# Altium schematic symbol library En.SCHLIB: 251 symbols (part 5 of 5)
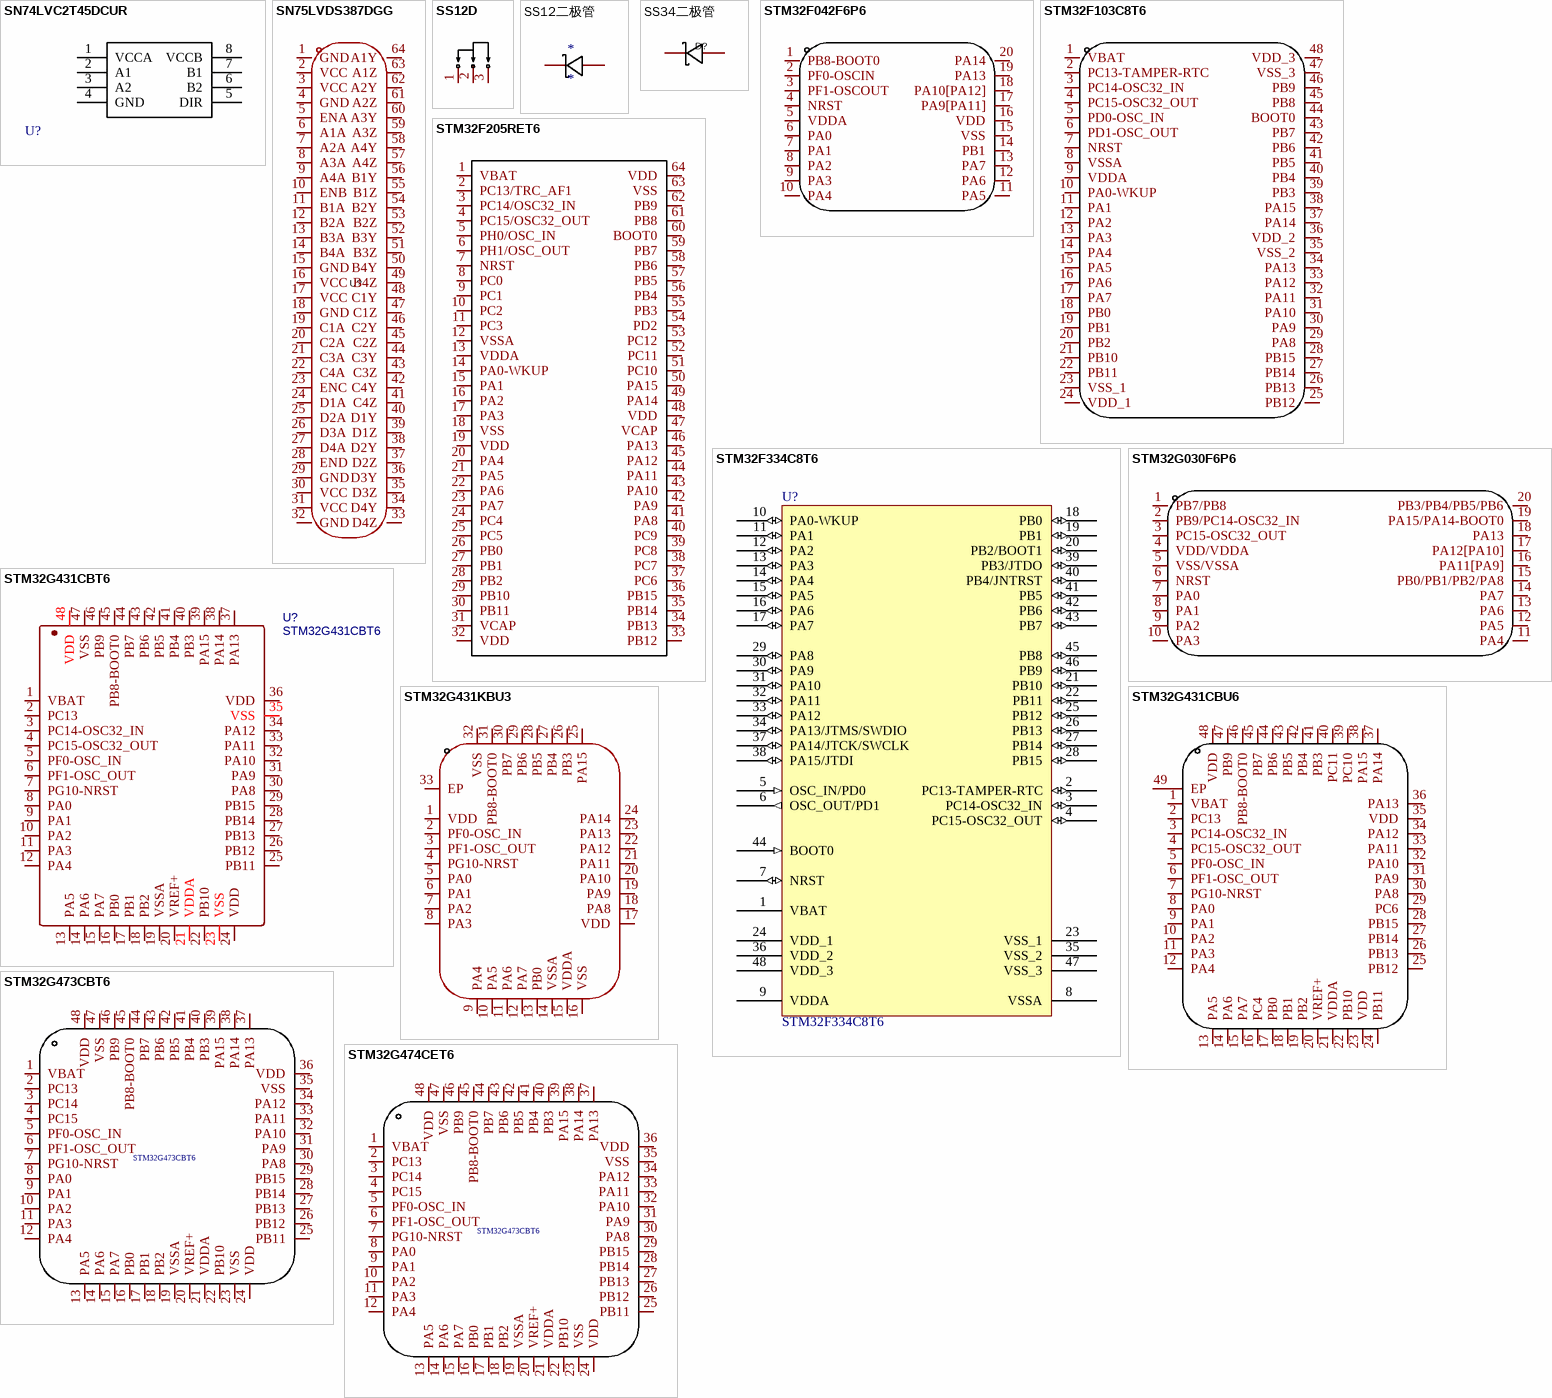
[diagram p23: symbols SN74LVC2T45DCUR to STM32G474CET6]

## STM32G030F6P6
designator U?  (value not drawn)
Manufacturer: ST(意法半导体); Add into BOM: yes; CPU Core: CM0; Program Storage Size: 32KB; RAM Size: 8KB; GPIO Ports Number: 18; Operating Voltage Range: 2V~3.6V; CPU Maximum Speed: 64MHz; Program Memory Type: FLASH; ADC (Bit): 12bit; Peripheral/Function: DMA；看门狗；看门狗; Internal Oscillator: 有; Symbol: STM32G030F6P6; Device: STM32G030F6P6; Supplier: LCSC; Supplier Part: C724040; Manufacturer Part: STM32G030F6P6; JLCPCB Part Class: Extended Part; LCSC Part Name: STM32G030F6P6; Supplier Footprint: TSSOP-20; Datasheet: https://atta.szlcsc.com/upload/public/pdf/source/20200511/C529329_A1CB615556C746C4EA827FCAD1461480.pdf; Convert to PCB: yes; Operating Temperature Range: -40℃~+85℃; DAC (Bit): -; PWM (Bit): -; Universal Serial Bus: -; Internal Comparator: -; communication protocol: -; Watchdog: -; Real-Time Clock: -; Infrared Data Association: -; Low-Voltage Detect: -; CCP Capture/Compare: -; Secure Digital Input and Output: -; Direct Memory Access: -
footprint TSSOP-20_L6.5-W4.4-P0.65-LS6.4-BL
pins: 1 PB7/PB8, 2 PB9/PC14-OSC32_IN, 3 PC15-OSC32_OUT, 4 VDD/VDDA, 5 VSS/VSSA, 6 NRST, 7 PA0, 8 PA1, 9 PA2, 10 PA3, 11 PA4, 12 PA5, 13 PA6, 14 PA7, 15 PB0/PB1/PB2/PA8, 16 PA11[PA9], 17 PA12[PA10], 18 PA13, 19 PA15/PA14-BOOT0, 20 PB3/PB4/PB5/PB6

## STM32G431CBT6
designator U?
BOM_Manufacturer: STMicroelectronics; Contributor: LCSC; BOM_Supplier: LCSC; BOM_Supplier Part: C529355; BOM_Manufacturer Part: STM32G431CBT6; BOM_JLCPCB Part Class: Extended Part; spicePre: U; spiceSymbolName: STM32G431CBT6
footprint LQFP-48
pins: 1 VBAT, 2 PC13, 3 PC14-OSC32_IN, 4 PC15-OSC32_OUT, 5 PF0-OSC_IN, 6 PF1-OSC_OUT, 7 PG10-NRST, 8 PA0, 9 PA1, 10 PA2, 11 PA3, 12 PA4, 13 PA5, 14 PA6, 15 PA7, 16 PB0, 17 PB1, 18 PB2, 19 VSSA, 20 VREF+, 21 VDDA, 22 PB10, 23 VSS, 24 VDD, 25 PB11, 26 PB12, 27 PB13, 28 PB14, 29 PB15, 30 PA8, 31 PA9, 32 PA10, 33 PA11, 34 PA12, 35 VSS, 36 VDD, 37 PA13, 38 PA14, 39 PA15, 40 PB3, 41 PB4, 42 PB5, 43 PB6, 44 PB7, 45 PB8-BOOT0, 46 PB9, 47 VSS, 48 VDD

## STM32G431CBU6
designator U?  (value not drawn)
Manufacturer: ST(意法半导体); Add into BOM: yes; CPU Core: ARM-M系列; Program Storage Size: 128KB; RAM Size: 32KB; GPIO Ports Number: 42; Operating Voltage Range: 1.71V~3.6V; CPU Maximum Speed: 170MHz; Program Memory Type: FLASH; ADC (Bit): 12bit; Peripheral/Function: DMA；PWM; Watchdog: 有; Name: STM32G431CBU6; Symbol: STM32G431CBU6; Device: STM32G431CBU6; LCSC Part Name: STM32G431CBU6; Supplier Part: C529356; Manufacturer Part: STM32G431CBU6; Supplier Footprint: UFQFPN-48(7x7); JLCPCB Part Class: Extended Part; Datasheet: https://atta.szlcsc.com/upload/public/pdf/source/20200511/C529354_7C66CF00837B904D0C15DCE45B69418C.pdf; Supplier: LCSC; Convert to PCB: yes; Operating Temperature Range: -40℃~+85℃; DAC (Bit): 12bit; PWM (Bit): -; Universal Serial Bus: -; Internal Comparator: -; communication protocol: -; Real-Time Clock: -; Infrared Data Association: 有; Low-Voltage Detect: 有; CCP Capture/Compare: -; Secure Digital Input and Output: -; Direct Memory Access: 有; Internal Oscillator: 有
footprint UFQFPN-48_L7.0-W7.0-P0.50-BL-EP
3D model UFQFPN-48_L7.0-W7.0-H0.6-P0.50
pins: 1 VBAT, 2 PC13, 3 PC14-OSC32_IN, 4 PC15-OSC32_OUT, 5 PF0-OSC_IN, 6 PF1-OSC_OUT, 7 PG10-NRST, 8 PA0, 9 PA1, 10 PA2, 11 PA3, 12 PA4, 13 PA5, 14 PA6, 15 PA7, 16 PC4, 17 PB0, 18 PB1, 19 PB2, 20 VREF+, 21 VDDA, 22 PB10, 23 VDD, 24 PB11, 25 PB12, 26 PB13, 27 PB14, 28 PB15, 29 PC6, 30 PA8, 31 PA9, 32 PA10, 33 PA11, 34 PA12, 35 VDD, 36 PA13, 37 PA14, 38 PA15, 39 PC10, 40 PC11, 41 PB3, 42 PB4, 43 PB5, 44 PB6, 45 PB7, 46 PB8-BOOT0, 47 PB9, 48 VDD, 49 EP

## STM32G431KBU3
designator U?  (value not drawn)
Manufacturer: ST(意法半导体); Add into BOM: yes; CPU Core: ARM-M4; CPU Maximum Speed: 170MHz; Program Storage Size: 128KB; Program Memory Type: FLASH; Number of I/O: 26; ADC (Bit): 12bit; Low Voltage Detection Threshold: 1.71V~3.6V; Symbol: STM32G431KBU3; Device: STM32G431KBU3; LCSC Part Name: 带DSP和FPU的170MHz主流ARM Cortex-M4 MCU，具有128 KB Flash存储器、数学加速器和中等模拟电平集成; Supplier Part: C1341901; Manufacturer Part: STM32G431KBU3; Supplier Footprint: UFQFPN-32(5x5); JLCPCB Part Class: Extended Part; Datasheet: https://atta.szlcsc.com/upload/public/pdf/source/20210607/F3CD0646E5D00AAFDE875C196C2D7333.pdf; Supplier: LCSC; Convert to PCB: yes; DAC (Bit): 12bit; Application Area: -
footprint UFQFPN-32_L5.0-W5.0-P0.50-BL-EP3.5
3D model UFQFPN-32_L5.0-W5.0-H0.6-P0.50
pins: 1 VDD, 2 PF0-OSC_IN, 3 PF1-OSC_OUT, 4 PG10-NRST, 5 PA0, 6 PA1, 7 PA2, 8 PA3, 9 PA4, 10 PA5, 11 PA6, 12 PA7, 13 PB0, 14 VSSA, 15 VDDA, 16 VSS, 17 VDD, 18 PA8, 19 PA9, 20 PA10, 21 PA11, 22 PA12, 23 PA13, 24 PA14, 25 PA15, 26 PB3, 27 PB4, 28 PB5, 29 PB6, 30 PB7, 31 PB8-BOOT0, 32 VSS, 33 EP

## STM32G473CBT6
designator U?  (value not drawn)
Manufacturer: ST(意法半导体); Add into BOM: yes; Symbol: STM32G473CBT6; Device: STM32G473CBT6; Supplier: LCSC; Supplier Part: C730111; Manufacturer Part: STM32G473CBT6; JLCPCB Part Class: Extended Part; LCSC Part Name: STM32G473CBT6; Supplier Footprint: LQFP-48(7x7); Datasheet: https://atta.szlcsc.com/upload/public/pdf/source/20200902/C730111_19331807E2800E1C1C13BFFAAC550E20.pdf; Convert to PCB: yes
footprint LQFP-48
pins: 1 VBAT, 2 PC13, 3 PC14, 4 PC15, 5 PF0-OSC_IN, 6 PF1-OSC_OUT, 7 PG10-NRST, 8 PA0, 9 PA1, 10 PA2, 11 PA3, 12 PA4, 13 PA5, 14 PA6, 15 PA7, 16 PB0, 17 PB1, 18 PB2, 19 VSSA, 20 VREF+, 21 VDDA, 22 PB10, 23 VSS, 24 VDD, 25 PB11, 26 PB12, 27 PB13, 28 PB14, 29 PB15, 30 PA8, 31 PA9, 32 PA10, 33 PA11, 34 PA12, 35 VSS, 36 VDD, 37 PA13, 38 PA14, 39 PA15, 40 PB3, 41 PB4, 42 PB5, 43 PB6, 44 PB7, 45 PB8-BOOT0, 46 PB9, 47 VSS, 48 VDD

## STM32G474CET6
designator U?  (value not drawn)
Manufacturer: ST(意法半导体); Symbol: STM32G473CBT6; Add into BOM: yes; Device: STM32G473CBT6; Supplier: LCSC; Supplier Part: C730111; Manufacturer Part: STM32G473CBT6; JLCPCB Part Class: Extended Part; LCSC Part Name: STM32G473CBT6; Supplier Footprint: LQFP-48(7x7); Datasheet: https://atta.szlcsc.com/upload/public/pdf/source/20200902/C730111_19331807E2800E1C1C13BFFAAC550E20.pdf; Convert to PCB: yes
footprint LQFP-48
pins: 1 VBAT, 2 PC13, 3 PC14, 4 PC15, 5 PF0-OSC_IN, 6 PF1-OSC_OUT, 7 PG10-NRST, 8 PA0, 9 PA1, 10 PA2, 11 PA3, 12 PA4, 13 PA5, 14 PA6, 15 PA7, 16 PB0, 17 PB1, 18 PB2, 19 VSSA, 20 VREF+, 21 VDDA, 22 PB10, 23 VSS, 24 VDD, 25 PB11, 26 PB12, 27 PB13, 28 PB14, 29 PB15, 30 PA8, 31 PA9, 32 PA10, 33 PA11, 34 PA12, 35 VSS, 36 VDD, 37 PA13, 38 PA14, 39 PA15, 40 PB3, 41 PB4, 42 PB5, 43 PB6, 44 PB7, 45 PB8-BOOT0, 46 PB9, 47 VSS, 48 VDD

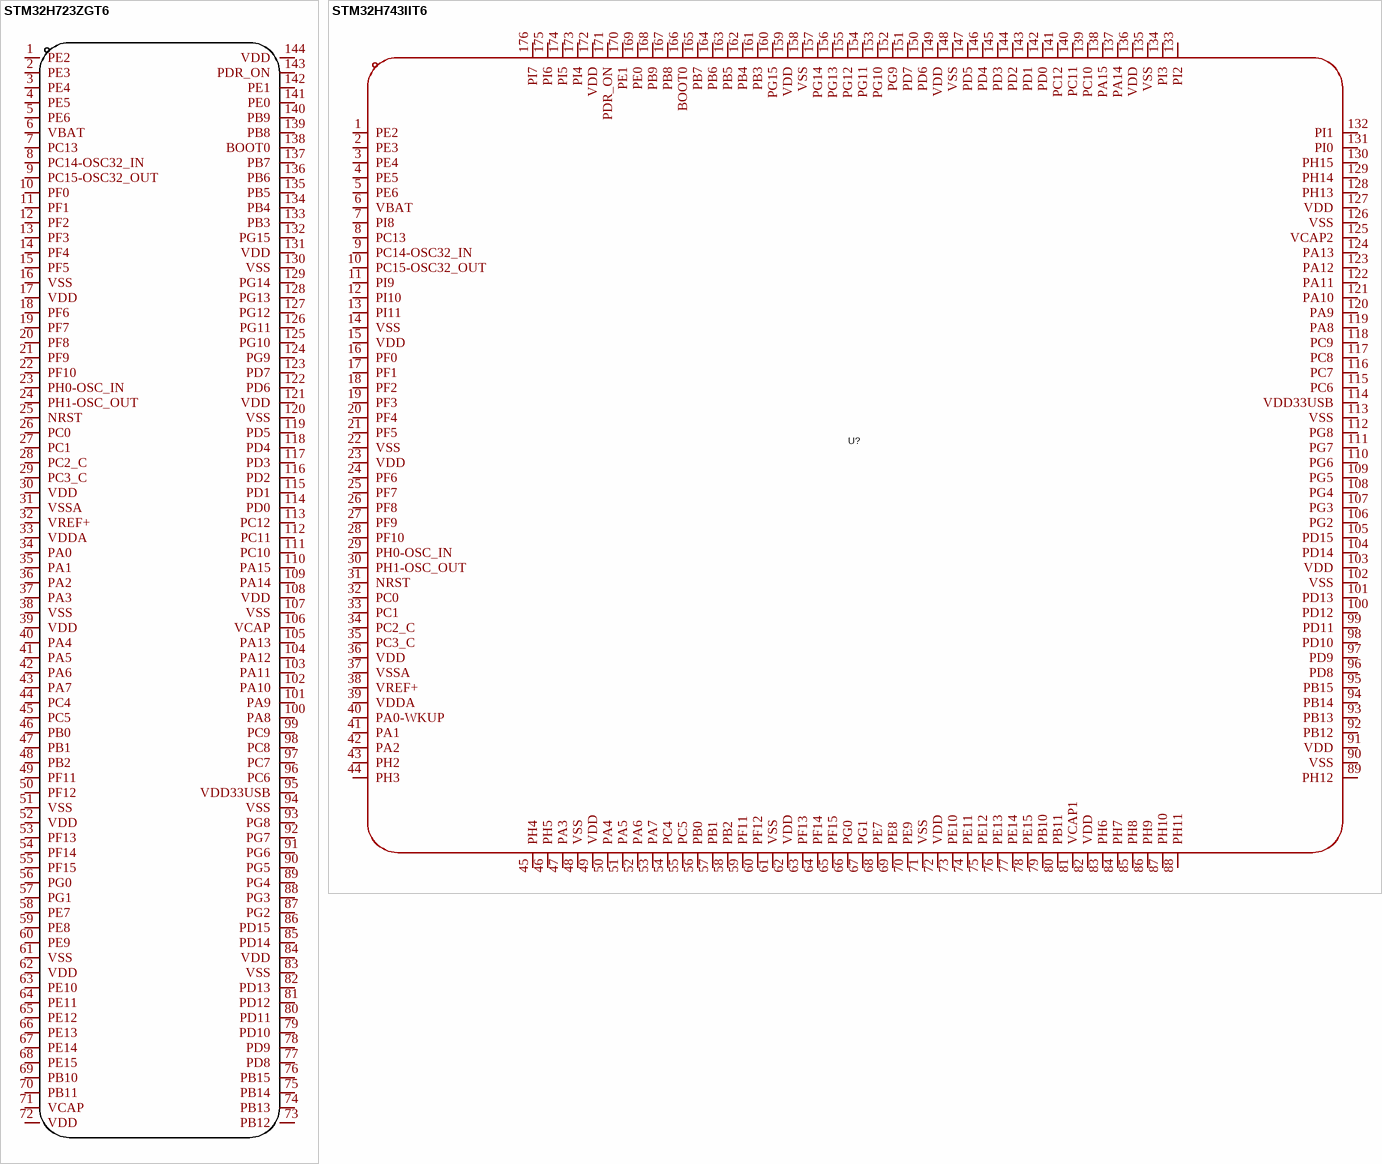
[diagram p17: symbols STM32H723ZGT6 to STM32H743IIT6]

## STM32H723ZGT6
designator U?  (value not drawn)
Manufacturer: ST(意法半导体); Add into BOM: yes; CPU Core: ARM-M系列; Program Storage Size: 1MB; RAM Size: 564KB; GPIO Ports Number: 112; Operating Voltage Range: 1.71V~3.6V; CPU Maximum Speed: 550MHz; Program Memory Type: FLASH; ADC (Bit): 12bit；16bit; DAC (Bit): 12bit; Universal Serial Bus: 有; Peripheral/Function: DMA；LCD/LED驱动；PWM; Symbol: STM32H723ZGT6; Device: STM32H723ZGT6; LCSC Part Name: STM32H723ZGT6; Supplier Part: C730146; Manufacturer Part: STM32H723ZGT6; Supplier Footprint: LQFP-144(20x20); JLCPCB Part Class: Extended Part; Datasheet: https://atta.szlcsc.com/upload/public/pdf/source/20200902/C730141_32325B298F902737689CA9A88D6BD2F2.pdf; Supplier: LCSC; Convert to PCB: yes; Operating Temperature Range: -40℃~+85℃; PWM (Bit): -; 8Bit Timer: -; 16Bit Timer: -; 32Bit Timer: -; CAN: -; UART/USART: -; I2C: -; I2S: -; SPI: -; Internal Comparator: -; communication protocol: -; Watchdog: 有; Real-Time Clock: -; Infrared Data Association: 有; Low-Voltage Detect: 有; CCP Capture/Compare: -; LCD Module: 有; LED Module: -; Secure Digital Input and Output: 有; Direct Memory Access: 有; Internal Oscillator: 有; Application Area: -
footprint LQFP-144_L20.0-W20.0-P0.50-LS22.0-BL
pins: 1 PE2, 2 PE3, 3 PE4, 4 PE5, 5 PE6, 6 VBAT, 7 PC13, 8 PC14-OSC32_IN, 9 PC15-OSC32_OUT, 10 PF0, 11 PF1, 12 PF2, 13 PF3, 14 PF4, 15 PF5, 16 VSS, 17 VDD, 18 PF6, 19 PF7, 20 PF8, 21 PF9, 22 PF10, 23 PH0-OSC_IN, 24 PH1-OSC_OUT, 25 NRST, 26 PC0, 27 PC1, 28 PC2_C, 29 PC3_C, 30 VDD, 31 VSSA, 32 VREF+, 33 VDDA, 34 PA0, 35 PA1, 36 PA2, 37 PA3, 38 VSS, 39 VDD, 40 PA4, 41 PA5, 42 PA6, 43 PA7, 44 PC4, 45 PC5, 46 PB0, 47 PB1, 48 PB2, 49 PF11, 50 PF12, 51 VSS, 52 VDD, 53 PF13, 54 PF14, 55 PF15, 56 PG0, 57 PG1, 58 PE7, 59 PE8, 60 PE9, 61 VSS, 62 VDD, 63 PE10, 64 PE11, 65 PE12, 66 PE13, 67 PE14, 68 PE15, 69 PB10, 70 PB11, 71 VCAP, 72 VDD, 73 PB12, 74 PB13, 75 PB14, 76 PB15, 77 PD8, 78 PD9, 79 PD10, 80 PD11, 81 PD12, 82 PD13, 83 VSS, 84 VDD, 85 PD14, 86 PD15, 87 PG2, 88 PG3, 89 PG4, 90 PG5, 91 PG6, 92 PG7, 93 PG8, 94 VSS, 95 VDD33USB, 96 PC6, 97 PC7, 98 PC8, 99 PC9, 100 PA8, 101 PA9, 102 PA10, 103 PA11, 104 PA12, 105 PA13, 106 VCAP, 107 VSS, 108 VDD, 109 PA14, 110 PA15, 111 PC10, 112 PC11, 113 PC12, 114 PD0, 115 PD1, 116 PD2, 117 PD3, 118 PD4, 119 PD5, 120 VSS, 121 VDD, 122 PD6, 123 PD7, 124 PG9, 125 PG10, 126 PG11, 127 PG12, 128 PG13, 129 PG14, 130 VSS, 131 VDD, 132 PG15, 133 PB3, 134 PB4, 135 PB5, 136 PB6, 137 PB7, 138 BOOT0, 139 PB8, 140 PB9, 141 PE0, 142 PE1, 143 PDR_ON, 144 VDD

## STM32H743IIT6
designator U?  (value not drawn)
Manufacturer: ST(意法半导体); Add into BOM: yes; CPU Maximum Speed: 480MHz; Program Storage Size: 2MB; Program Memory Type: FLASH; GPIO Ports Number: 140; ADC (Bit): 16bit; DAC (Bit): 12bit; Low Voltage Detection Threshold: 1.62V~3.6V; Symbol: STM32H743IIT6; Device: STM32H743IIT6; LCSC Part Name: 带DSP和DP-FPU的高性能ARM Cortex-M7 MCU，具有2 MB Flash、1 MB RAM、480 MHz CPU、ART加速器、一级缓存、外部存储器接口和大量外设; Supplier Part: C89597; Manufacturer Part: STM32H743IIT6; Supplier Footprint: LQFP-176(24x24); JLCPCB Part Class: Extended Part; Datasheet: https://atta.szlcsc.com/upload/public/pdf/source/20240801/032C575B9AAB8514934CF1EBEB30E849.pdf; Supplier: LCSC; Convert to PCB: yes; CPU Core: -
footprint LQFP-176_L24.0-W24.0-P0.50-LS26.0-BL
pins: 1 PE2, 2 PE3, 3 PE4, 4 PE5, 5 PE6, 6 VBAT, 7 PI8, 8 PC13, 9 PC14-OSC32_IN, 10 PC15-OSC32_OUT, 11 PI9, 12 PI10, 13 PI11, 14 VSS, 15 VDD, 16 PF0, 17 PF1, 18 PF2, 19 PF3, 20 PF4, 21 PF5, 22 VSS, 23 VDD, 24 PF6, 25 PF7, 26 PF8, 27 PF9, 28 PF10, 29 PH0-OSC_IN, 30 PH1-OSC_OUT, 31 NRST, 32 PC0, 33 PC1, 34 PC2_C, 35 PC3_C, 36 VDD, 37 VSSA, 38 VREF+, 39 VDDA, 40 PA0-WKUP, 41 PA1, 42 PA2, 43 PH2, 44 PH3, 45 PH4, 46 PH5, 47 PA3, 48 VSS, 49 VDD, 50 PA4, 51 PA5, 52 PA6, 53 PA7, 54 PC4, 55 PC5, 56 PB0, 57 PB1, 58 PB2, 59 PF11, 60 PF12, 61 VSS, 62 VDD, 63 PF13, 64 PF14, 65 PF15, 66 PG0, 67 PG1, 68 PE7, 69 PE8, 70 PE9, 71 VSS, 72 VDD, 73 PE10, 74 PE11, 75 PE12, 76 PE13, 77 PE14, 78 PE15, 79 PB10, 80 PB11, 81 VCAP1, 82 VDD, 83 PH6, 84 PH7, 85 PH8, 86 PH9, 87 PH10, 88 PH11, 89 PH12, 90 VSS, 91 VDD, 92 PB12, 93 PB13, 94 PB14, 95 PB15, 96 PD8, 97 PD9, 98 PD10, 99 PD11, 100 PD12, 101 PD13, 102 VSS, 103 VDD, 104 PD14, 105 PD15, 106 PG2, 107 PG3, 108 PG4, 109 PG5, 110 PG6, 111 PG7, 112 PG8, 113 VSS, 114 VDD33USB, 115 PC6, 116 PC7, 117 PC8, 118 PC9, 119 PA8, 120 PA9, 121 PA10, 122 PA11, 123 PA12, 124 PA13, 125 VCAP2, 126 VSS, 127 VDD, 128 PH13, 129 PH14, 130 PH15, 131 PI0, 132 PI1, 133 PI2, 134 PI3, 135 VSS, 136 VDD, 137 PA14, 138 PA15, 139 PC10, 140 PC11, 141 PC12, 142 PD0, 143 PD1, 144 PD2, 145 PD3, 146 PD4, 147 PD5, 148 VSS, 149 VDD, 150 PD6, 151 PD7, 152 PG9, 153 PG10, 154 PG11, 155 PG12, 156 PG13, 157 PG14, 158 VSS, 159 VDD, 160 PG15, 161 PB3, 162 PB4, 163 PB5, 164 PB6, 165 PB7, 166 BOOT0, 167 PB8, 168 PB9, 169 PE0, 170 PE1, 171 PDR_ON, 172 VDD, 173 PI4, 174 PI5, 175 PI6, 176 PI7

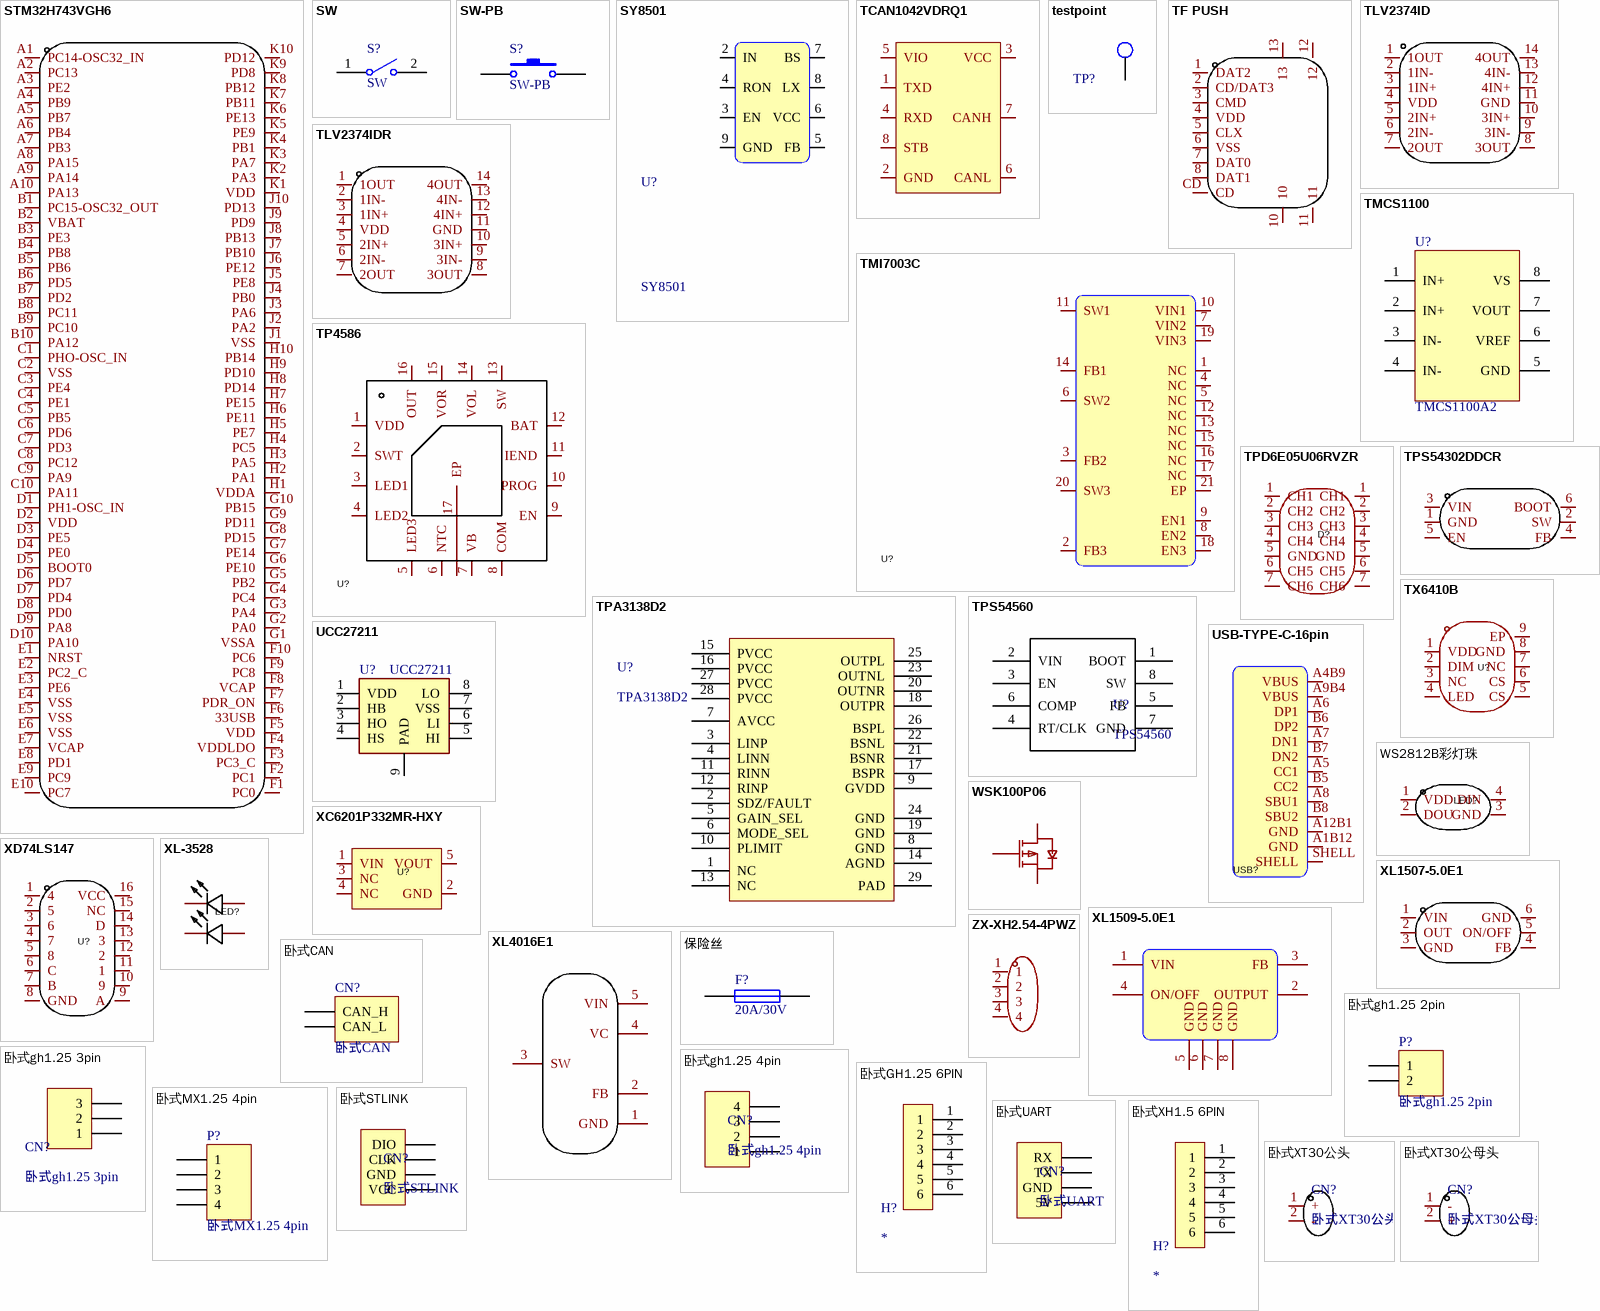
[diagram p18: symbols STM32H743VGH6 to 卧式XT30公母头]

## STM32H743VGH6
designator U?  (value not drawn)
Manufacturer: ST(意法半导体); Add into BOM: yes; CPU Core: ARM-M系列; Program Storage Size: 1MB; GPIO Ports Number: 82; Operating Voltage Range: 1.71V~3.6V; CPU Maximum Speed: 480MHz; ADC (Bit): 16bit; DAC (Bit): 12bit; Universal Serial Bus: 有; Name: STM32H743VGH6; Symbol: STM32H743VGH6; Device: STM32H743VGH6; LCSC Part Name: STM32H743VGH6; Supplier Part: C3210600; Manufacturer Part: STM32H743VGH6; Supplier Footprint: TFBGA-100; JLCPCB Part Class: Extended Part; Datasheet: https://atta.szlcsc.com/upload/public/pdf/source/20220307/46489B78091107FB73FE6602EFA9948C.pdf; Supplier: LCSC; Convert to PCB: yes; Operating Temperature Range: -40℃~+85℃; Watchdog: 有; Infrared Data Association: 有; Low-Voltage Detect: 有; LCD Module: 有; Secure Digital Input and Output: 有; Direct Memory Access: 有; Internal Oscillator: 有
footprint TFBGA-100_L8.0-W8.0-P0.80-R10-C10-TL
pins: A1 PC14-OSC32_IN, A2 PC13, A3 PE2, A4 PB9, A5 PB7, A6 PB4, A7 PB3, A8 PA15, A9 PA14, A10 PA13, B1 PC15-OSC32_OUT, B2 VBAT, B3 PE3, B4 PB8, B5 PB6, B6 PD5, B7 PD2, B8 PC11, B9 PC10, B10 PA12, C1 PHO-OSC_IN, C2 VSS, C3 PE4, C4 PE1, C5 PB5, C6 PD6, C7 PD3, C8 PC12, C9 PA9, C10 PA11, D1 PH1-OSC_IN, D2 VDD, D3 PE5, D4 PE0, D5 BOOT0, D6 PD7, D7 PD4, D8 PD0, D9 PA8, D10 PA10, E1 NRST, E2 PC2_C, E3 PE6, E4 VSS, E5 VSS, E6 VSS, E7 VCAP, E8 PD1, E9 PC9, E10 PC7, F1 PC0, F2 PC1, F3 PC3_C, F4 VDDLDO, F5 VDD, F6 33USB, F7 PDR_ON, F8 VCAP, F9 PC8, F10 PC6, G1 VSSA, G2 PA0, G3 PA4, G4 PC4, G5 PB2, G6 PE10, G7 PE14, G8 PD15, G9 PD11, G10 PB15, H1 VDDA, H2 PA1, H3 PA5, H4 PC5, H5 PE7, H6 PE11, H7 PE15, H8 PD14, H9 PD10, H10 PB14, J1 VSS, J2 PA2, J3 PA6, J4 PB0, J5 PE8, J6 PE12, J7 PB10, J8 PB13, J9 PD9, J10 PD13, K1 VDD, K2 PA3, K3 PA7, K4 PB1, K5 PE9, K6 PE13, K7 PB11, K8 PB12, K9 PD8, K10 PD12

## SW
designator S?
开关
footprint KEY_SMD
pins: 1 COMMON, 2 NO

## SW-PB
designator S?
开关; Published: 24-Mar-1999; LatestRevisionDate: 17-Jul-2002; LatestRevisionNote: Re-released for DXP Platform.; PackageReference: SPST-2; Publisher: Altium Limited; PackageDescription: Switch; 2 Leads
footprint TS-1101
pins: 1, 2

## SY8501
designator U?
电源管理芯片
footprint SO8E
pins: 2 IN, 3 EN, 4 RON, 5 FB, 6 VCC, 7 BS, 8 LX, 9 GND

## TCAN1042VDRQ1
designator U?  (value not drawn)
Manufacturer: TI(德州仪器); Add into BOM: yes; Supply Voltage: 4.5V~5.5V; Symbol: TCAN1042VDRQ1; Device: TCAN1042VDRQ1; LCSC Part Name: TCAN1042-Q1 汽车故障保护 CAN 收发器，带 CAN FD; Supplier Part: C485806; Manufacturer Part: TCAN1042VDRQ1; Supplier Footprint: SOIC-8; JLCPCB Part Class: Extended Part; Datasheet: https://www.ti.com/cn/lit/gpn/tcan1042hv-q1; Supplier: LCSC; Convert to PCB: yes; Type: -; Data Rate: -; Supply Current: -; Operating Temperature: -55℃~+125℃
footprint SOIC-8_L4.9-W3.9-P1.27-LS6.0-BL
3D model SOIC-8_L4.9-W3.9-H1.7-LS6.0-P1.27
pins: 1 TXD, 2 GND, 3 VCC, 4 RXD, 5 VIO, 6 CANL, 7 CANH, 8 STB

## testpoint
designator TP?  (value not drawn)
footprint testpoint
pins: 1

## TF PUSH
designator CARD?  (value not drawn)
SD卡槽; Manufacturer: SHOU HAN(首韩); Add into BOM: yes; Card Connection Mode: 自弹式; Card Type: MicroSD卡(TF卡); Connector Type: 卡座; Maximum Body Height: 2mm; Additional Card Detection Pins: 无; Symbol: TF PUSH; Device: TF PUSH; LCSC Part Name: 自弹式 MicroSD卡(TF卡) 卡座; Supplier Part: C393941; Manufacturer Part: TF PUSH; Supplier Footprint: SMD; JLCPCB Part Class: Extended Part; Datasheet: https://atta.szlcsc.com/upload/public/pdf/source/20191011/C393941_0DDD896EE907FEB750D8B7B8982E2A67.pdf; Supplier: LCSC; Convert to PCB: yes; Contact Material: -; Contact Plating: -; Operating Temperature Range: -20℃~+90℃; Soldering Temperature(Max): -; Supplementary Features: -
footprint TF-SMD_TF-PUSH
pins: 1 DAT2, 2 CD/DAT3, 3 CMD, 4 VDD, 5 CLX, 6 VSS, 7 DAT0, 8 DAT1, 10, 11, 12, 13, CD

## TLV2374ID
designator U?  (value not drawn)
四通道运放; Manufacturer: TI(德州仪器); Add into BOM: yes; Number of Circuits: 四路; Gain Bandwidth Product(GBP): 3MHz; Slew Rate(SR): 2.1V/us; Symbol: TLV2374ID; Device: TLV2374ID; Supplier: LCSC; Supplier Part: C353017; Manufacturer Part: TLV2374ID; JLCPCB Part Class: Extended Part; LCSC Part Name: TLV2374ID; Supplier Footprint: SOIC-14-300mil; Datasheet: https://www.ti.com/cn/lit/gpn/tlv2374; Convert to PCB: yes
footprint SOIC-14_L8.7-W3.9-P1.27-LS6.0-BL
pins: 1 1OUT, 2 1IN-, 3 1IN+, 4 VDD, 5 2IN+, 6 2IN-, 7 2OUT, 8 3OUT, 9 3IN-, 10 3IN+, 11 GND, 12 4IN+, 13 4IN-, 14 4OUT

## TLV2374IDR
designator U?  (value not drawn)
四通道运算放大器; Manufacturer: TI(德州仪器); Add into BOM: yes; Number of Circuits: 四路; Gain Bandwidth Product(GBP): 3MHz; Current - Input Bias(Ib): 1pA; Slew Rate(SR): 2.1V/us; Output Current: 16mA; Supply Current: 750uA; Symbol: TLV2374IDR; Device: TLV2374IDR; LCSC Part Name: TLV2374IDR; Supplier Part: C29793; Manufacturer Part: TLV2374IDR; Supplier Footprint: SOIC-14-150mil; JLCPCB Part Class: Extended Part; Datasheet: https://www.ti.com/cn/lit/gpn/tlv2374; Supplier: LCSC; Convert to PCB: yes; Output Type: -; Rail to Rail: -; Operating Temperature: -40℃~+125℃
footprint SOIC-14_L8.7-W3.9-P1.27-LS6.0-BL
pins: 1 1OUT, 2 1IN-, 3 1IN+, 4 VDD, 5 2IN+, 6 2IN-, 7 2OUT, 8 3OUT, 9 3IN-, 10 3IN+, 11 GND, 12 4IN+, 13 4IN-, 14 4OUT

## TMCS1100
designator U?, comment TMCS1100A2
霍尔电流传感器
footprint SOIC8_N (8-Pin Small Outline Integrated Circuit Package (SOIC8), IPC Medium Density)
pins: 1 IN+, 2 IN+, 3 IN-, 4 IN-, 5 GND, 6 VREF, 7 VOUT, 8 VS

## TMI7003C
designator U?  (value not drawn)
Manufacturer: TMI(拓尔微); Add into BOM: yes; Function: 降压型; Input Voltage: 2.5V~5.5V; Switching Frequency: 1.5MHz; Topology: 降压式; Symbol: TMI7003C; Device: TMI7003C; LCSC Part Name: 3通道1.5A 1.5MHz同步降压电源管理IC; Supplier Part: C840566; Manufacturer Part: TMI7003C; Supplier Footprint: QFN-20-EP(3x3); JLCPCB Part Class: Extended Part; Datasheet: https://atta.szlcsc.com/upload/public/pdf/source/20240902/914C742CD42C12243EC1254263C971AB.pdf; Supplier: LCSC; Convert to PCB: yes; Output Type: -; Output Voltage: -; Output Current: -; Operating Temperature: -40℃~+125℃; Synchronous Rectification: -; Number of Outputs: -; Quiescent Current (Iq): -; Switch tube (built-in/external): -
footprint QFN-20_L3.0-W3.0-P0.40-BL-EP1.9
3D model QFN-20_L3.0-W3.0-H0.8-P0.40
pins: 1 NC, 2 FB3, 3 FB2, 4 NC, 5 NC, 6 SW2, 7 VIN2, 8 EN2, 9 EN1, 10 VIN1, 11 SW1, 12 NC, 13 NC, 14 FB1, 15 NC, 16 NC, 17 NC, 18 EN3, 19 VIN3, 20 SW3, 21 EP

## TP4586
designator U?  (value not drawn)
电源管理; Manufacturer: TPOWER(天源); Add into BOM: yes; Symbol: TP4586; Device: TP4586; LCSC Part Name: TP4586; Supplier Part: C5464797; Manufacturer Part: TP4586; Supplier Footprint: QFN3x3-16; JLCPCB Part Class: Extended Part; Datasheet: https://atta.szlcsc.com/upload/public/pdf/source/20230601/B5B178145FB8EE634FA7BD03B0DB3B3D.pdf; Supplier: LCSC; Convert to PCB: yes
footprint QFN-16_L3.0-W3.0-P0.50-TL-EP
pins: 1 VDD, 2 SWT, 3 LED1, 4 LED2, 5 LED3, 6 NTC, 7 VB, 8 COM, 9 EN, 10 PROG, 11 IEND, 12 BAT, 13 SW, 14 VOL, 15 VOR, 16 OUT, 17 EP

## TPA3138D2
designator U?
音频放大器
footprint TSSOP-28_L9.7-W4.4-P0.65-LS6.4-BL-EP
pins: 1 NC, 2 SDZ/FAULT, 3 LINP, 4 LINN, 5 GAIN_SEL, 6 MODE_SEL, 7 AVCC, 8 GND, 9 GVDD, 10 PLIMIT, 11 RINN, 12 RINP, 13 NC, 14 AGND, 15 PVCC, 16 PVCC, 17 BSPR, 18 OUTPR, 19 GND, 20 OUTNR, 21 BSNR, 22 BSNL, 23 OUTNL, 24 GND, 25 OUTPL, 26 BSPL, 27 PVCC, 28 PVCC, 29 PAD

## TPD6E05U06RVZR
designator D?  (value not drawn)
USB ESD 5.5v; Manufacturer: TI(德州仪器); Add into BOM: yes; Reverse Stand-Off Voltage (Vrwm): 5.5V@Max; Maximum Clamping Voltage: 14V; Peak Pulse Power Dissipation (Ppp)@10/1000us: 40W; Breakdown Voltage: 6V; Type: TVS; Symbol: TPD6E05U06RVZR; Device: TPD6E05U06RVZR; LCSC Part Name: TPD6E05U06RVZR; Supplier Part: C962978; Manufacturer Part: TPD6E05U06RVZR; Supplier Footprint: USON-14(1.4x3.5); JLCPCB Part Class: Extended Part; Datasheet: https://www.ti.com/cn/lit/gpn/tpd1e05u06; Supplier: LCSC; Convert to PCB: yes; Peak Pulse Current (Ipp)@10/1000us: -
footprint USON-14_L3.5-W1.4-P0.5-BL
3D model USON-14_L3.5-W1.4-P0.5-BL
pins: 1 CH1, 1 CH1, 2 CH2, 2 CH2, 3 CH3, 3 CH3, 4 CH4, 4 CH4, 5 GND, 5 GND, 6 CH5, 6 CH5, 7 CH6, 7 CH6

## TPS54302DDCR
designator U?  (value not drawn)
DC-DC 同步整流BUCK芯片; Manufacturer: TI(德州仪器); Symbol: TPS54302DDCR_C311983; Add into BOM: yes; Function: 降压型; Output Type: 可调; Input Voltage: 4.5V~28V; Output Voltage: 596mV~28V; Output Current (Max): 3A; Switching Frequency: 400kHz; Synchronous Rectification: 是; Number of Outputs: 1; Topology: 降压式; Switch tube (built-in/external): 内置; Device: TPS54302DDCR; LCSC Part Name: TPS54302DDCR; Supplier Part: C311983; Manufacturer Part: TPS54302DDCR; Supplier Footprint: TSOT-23-6; JLCPCB Part Class: Extended Part; Datasheet: https://www.ti.com/cn/lit/gpn/tps54302; Supplier: LCSC; Convert to PCB: yes; Operating Temperature: -40℃~+125℃@(TJ)
footprint SOT-23-6_L2.9-W1.6-P0.95-LS2.8-BL
pins: 1 GND, 2 SW, 3 VIN, 4 FB, 5 EN, 6 BOOT

## TPS54560
designator U?
DC-DC 非同步整流降压芯片
footprint SOIC-8_L5.0-W4.0-P1.27-LS6.0-BL-EP2.0
pins: 1 BOOT, 2 VIN, 3 EN, 4 RT/CLK, 5 FB, 6 COMP, 7 GND, 8 SW

## TX6410B
designator U?  (value not drawn)
LED驱动; Manufacturer: XDS(芯鼎盛); Add into BOM: yes; Input Voltage: 2.5V~30V; Channels: 1; Output Current: 2A; Dimming: PWM; Symbol: TX6410B; Device: TX6410B; LCSC Part Name: 输出2A PWM调光; Supplier Part: C524847; Manufacturer Part: TX6410B; Supplier Footprint: ESOP-8; JLCPCB Part Class: Extended Part; Datasheet: https://atta.szlcsc.com/upload/public/pdf/source/20200427/C524847_FD7D6955A7A7AC78E063298DAE758AB0.pdf; Supplier: LCSC; Convert to PCB: yes; Output Voltage: 2.5V~30V; Operating temperature: -40℃~+120℃
footprint ESOP-8_L4.9-W3.9-P1.27-LS6.0-BL-EP
pins: 1 VDD, 2 DIM, 3 NC, 4 LED, 5 CS, 6 CS, 7 NC, 8 GND, 9 EP

## UCC27211
designator U?
栅极驱动器
footprint SOIC-8-EP
pins: 1 VDD, 2 HB, 3 HO, 4 HS, 5 HI, 6 LI, 7 VSS, 8 LO, 9 PAD

## USB-TYPE-C-16pin
designator USB?  (value not drawn)
Manufacturer: DEALON(德艺隆); Symbol: usb-type-c-018; Add into BOM: yes; Connector Type: Type-C; Gender: 母; Number of Contacts: 16P; Number of Ports: 1; Current Rating - Power (Max): 3A; Device: USB-TYPE-C-018; LCSC Part Name: Type-C 母 卧贴; Supplier Part: C2927038; Manufacturer Part: USB-TYPE-C-018; Supplier Footprint: SMD; JLCPCB Part Class: Extended Part; Datasheet: https://atta.szlcsc.com/upload/public/pdf/source/20211217/CCD3D517E355E8E0CC52ABD8D5784AD8.pdf; Supplier: LCSC; Convert to PCB: yes; Standard: -; Mounting Style: 卧贴; Operating Temperature Range: -25℃~+85℃
footprint usb-c_smd-type-c-31-m-12
pins: A1B12 GND, A4B9 VBUS, A5 CC1, A6 DP1, A7 DN1, A8 SBU1, A9B4 VBUS, A12B1 GND, B5 CC2, B6 DP2, B7 DN2, B8 SBU2, SHELL

## WS2812B彩灯珠
designator LED?, comment XL-5050RGBC-WS2812B  (value not drawn)
WS2812B彩灯珠; Manufacturer: XINGLIGHT(成兴光); Add into BOM: yes; Emitted Color: RGB三色; Peak Wavelength: 625nm；470nm；530nm; Lens Color: 无色透明透镜; Viewing Angle: 120°; Mounting Sytle: 正贴; Symbol: XL-5050RGBC-WS2812B; Device: XL-5050RGBC-WS2812B; LCSC Part Name: XL-5050RGBC-WS2812B; Supplier Part: C2843785; Manufacturer Part: XL-5050RGBC-WS2812B; Supplier Footprint: SMD5050; JLCPCB Part Class: Extended Part; Datasheet: https://atta.szlcsc.com/upload/public/pdf/source/20230111/86AAD2096485A2E5BCAB883FF8CBE6FD.pdf; Supplier: LCSC; Convert to PCB: yes; Power Dissipation: -; Forward Current: -; Dominant Wavelength: -; Diode Configuration: -; Color Temperature: -; Operating Temperature: -20℃~+85℃
footprint LED-SMD_4P-L5.0-W5.0-BL_XL-5050RGBC
pins: 1 VDD, 2 DOU, 3 GND, 4 DIN

## WSK100P06
designator Q?  (value not drawn)
Manufacturer: WINSOK(微硕); Add into BOM: yes; Drain to Source Voltage: 60V; Current - Continuous Drain(Id): 100A; Pd - Power Dissipation: 250W; Gate Threshold Voltage (Vgs(th)@Id): 1.3V; Gate Charge(Qg): 136nC@4.5V; Input Capacitance(Ciss@Vds): 6.095nF@15V; Reverse Transfer Capacitance (Crss@Vds): 430pF@15V; Symbol: WSK100P06; Device: WSK100P06; LCSC Part Name: P沟道,电流:-100A,耐压:-60V; Supplier Part: C22751501; Manufacturer Part: WSK100P06; Supplier Footprint: TO-263-2L; JLCPCB Part Class: Extended Part; Datasheet: https://atta.szlcsc.com/upload/public/pdf/source/20240625/2BAF80A8480DD086A01690505A0B60D7.pdf; Supplier: LCSC; Convert to PCB: yes; RDS(on): -; Operating Temperature: -55℃~+150℃
footprint TO-263-2_L10.2-W8.5-P2.54-LS15.2-TL
3D model TO-263-2_L10.2-W8.5-P2.54-LS15.2-TL
pins: 1 G, 2 D, 3 S

## XC6201P332MR-HXY
designator U?  (value not drawn)
3.3V LDO; Manufacturer: HXY MOSFET(华轩阳电子); Add into BOM: yes; Output Type: 固定; Maximum Input Voltage: 12V; MAX Output Current: 300mA; Output Polarity: 正极; Symbol: XC6201P332MR-HXY; Device: XC6201P332MR-HXY; LCSC Part Name: XC6201P332MR-HXY; Supplier Part: C19626990; Manufacturer Part: XC6201P332MR-HXY; Supplier Footprint: SOT-23-5L; JLCPCB Part Class: Extended Part; Datasheet: https://atta.szlcsc.com/upload/public/pdf/source/20231208/3D7EFECB06481ED5AED4680614D7FFF5.pdf; Supplier: LCSC; Convert to PCB: yes; Output Voltage: 3.3V
footprint SOT-23-5_L3.0-W1.7-P0.95-LS2.8-BR
pins: 1 VIN, 2 GND, 3 NC, 4 NC, 5 VOUT

## XD74LS147
designator U?  (value not drawn)
10~4路优先级编码器; Manufacturer: XINLUDA(信路达); Add into BOM: yes; Name: XD74LS147; Symbol: XD74LS147; Device: XD74LS147; LCSC Part Name: XD74LS147; Supplier Part: C521198; Manufacturer Part: XD74LS147; Supplier Footprint: DIP-16; JLCPCB Part Class: Extended Part; Datasheet: https://atta.szlcsc.com/upload/public/pdf/source/20200424/C521197_44E3118D18892D99555CDE5C346394E2.pdf; Supplier: LCSC; Convert to PCB: yes
footprint DIP-16_L19.2-W6.6-P2.54-LS7.6-BL
3D model DIP-16_L19.2-W6.6-H3.3-LS7.62-P2.54
pins: 1 4, 2 5, 3 6, 4 7, 5 8, 6 C, 7 B, 8 GND, 9 A, 10 9, 11 1, 12 2, 13 3, 14 D, 15 NC, 16 VCC

## XL1507-5.0E1
designator U?  (value not drawn)
DC-DC BUCK芯片; Manufacturer: XLSEMI(芯龙); Add into BOM: yes; Symbol: XL1507-5.0E1; Device: XL1507-5.0E1; LCSC Part Name: XL1507-5.0E1; Supplier Part: C74195; Manufacturer Part: XL1507-5.0E1; Supplier Footprint: TO-252-5; JLCPCB Part Class: Extended Part; Datasheet: https://atta.szlcsc.com/upload/public/pdf/source/20160525/1464169836651.pdf; Supplier: LCSC; Convert to PCB: yes
footprint TO-252-5_L6.5-W5.6-P1.27-LS9.5-TL
pins: 1 VIN, 2 OUT, 3 GND, 4 FB, 5 ON/OFF, 6 GND

## XL1509-5.0E1
designator U?  (value not drawn)
DC-DC BUCK芯片; Manufacturer: XLSEMI(芯龙); Add into BOM: yes; Function: 降压型; Switch tube (built-in/external): 内置; Symbol: XL1509-5.0E1; Device: XL1509-5.0E1; Supplier: LCSC; Manufacturer Part: XL1509-5.0E1; Supplier Part: C61063; JLCPCB Part Class: Basic Part; LCSC Part Name: XL1509-5.0E1; Supplier Footprint: SOIC-8; Datasheet: https://atta.szlcsc.com/upload/public/pdf/source/20151126/1457707596805.pdf; Convert to PCB: yes; Input Voltage: -; Output Current (Max): -; Switching Frequency: -; Synchronous Rectification: -; Number of Outputs: -; Topology: -
footprint SOIC-8_L5.0-W4.0-P1.27-LS6.0-BL
pins: 1 VIN, 2 OUTPUT, 3 FB, 4 ON/OFF, 5 GND, 6 GND, 7 GND, 8 GND

## XL4016E1
designator U?  (value not drawn)
DC-DC BUCK芯片; Manufacturer: XLSEMI(芯龙); Add into BOM: yes; Function: 降压型; Input Voltage: 8V~40V; Output Voltage: 1.25V~36V; Output Current (Max): 8A; Switching Frequency: 180kHz; Synchronous Rectification: 否; Number of Outputs: 1; Topology: 降压式; Switch tube (built-in/external): 内置; Symbol: XL4016E1; Device: XL4016E1; Supplier: LCSC; Manufacturer Part: XL4016E1; Supplier Part: C55881; JLCPCB Part Class: Extended Part; LCSC Part Name: XL4016E1; Supplier Footprint: TO-220-5; Datasheet: https://atta.szlcsc.com/upload/public/pdf/source/20221017/BA256A5392B705775B4C335FAFB3EDCF.pdf; Convert to PCB: yes
footprint TO-220-5L_L10.2-W4.5-P1.71-L
pins: 1 GND, 2 FB, 3 SW, 4 VC, 5 VIN

## XL-3528
designator LED?, comment XL-3528SURUGC  (value not drawn)
双色灯珠; Manufacturer: XINGLIGHT(成兴光); Add into BOM: yes; Emitted Color: 红色,翠绿色; Power Dissipation: 90mW；90mW; Forward Current: 30mA; Dominant Wavelength: 520nm~522.5nm；620nm~625nm; Peak Wavelength: 522.5nm；625nm; Lens Color: 无色透明透镜; Viewing Angle: 120°; Mounting Sytle: 正贴; Symbol: XL-3528SURUGC; Device: XL-3528SURUGC; LCSC Part Name: XL-3528SURUGC; Supplier Part: C2843810; Manufacturer Part: XL-3528SURUGC; Supplier Footprint: SMD3528; JLCPCB Part Class: Extended Part; Datasheet: https://atta.szlcsc.com/upload/public/pdf/source/20221102/F90D461D3395F167E4A274E460079459.pdf; Supplier: LCSC; Convert to PCB: yes; Diode Configuration: -; Operating Temperature: -30℃~+85℃
footprint LED-SMD_4P-L3.2-W2.8-LS3.5-TL
pins: 1, 2, 3, 4

## ZX-XH2.54-4PWZ
designator CN?  (value not drawn)
Manufacturer: Megastar(兆星); Add into BOM: yes; Pins Structure: 1x4P; Pitch: 2.54mm; Reference Series: XH; Number of PINs Per Row: 4; Current Rating (Max): 3A; Symbol: ZX-XH2.54-4PWZ; Device: ZX-XH2.54-4PWZ; LCSC Part Name: ZX-XH2.54-4PWZ; Supplier Part: C7429643; Manufacturer Part: ZX-XH2.54-4PWZ; Supplier Footprint: 弯插,P=2.54mm; JLCPCB Part Class: Extended Part; Datasheet: https://atta.szlcsc.com/upload/public/pdf/source/20230619/8DC602C7BA46C153FF1BE89D90453879.pdf; Supplier: LCSC; Convert to PCB: yes; Mounting Style: 弯插; Number of Pins: 4P; Number of Rows: 1; Row Spacing: -; Contact Material: 黄铜; Contact Plating: 锡; Operating Temperature Range: -25℃~+85℃
footprint CONN-TH_4P-P2.50_ZX-XH2.54-4PWZ
pins: 1, 2, 3, 4

## 保险丝
designator F?, comment 20A/30V
保险丝; Published: 8-Jun-2000; LatestRevisionDate: 17-Jul-2002; LatestRevisionNote: Re-released for DXP Platform.; PackageReference: PIN-W2/E2.8; Publisher: Altium Limited; PackageDescription: Thru-Hole; 2 Leads
footprint FU 1206 (贴片保险丝)
pins: 1, 2

## 卧式CAN
designator CN?
LatestRevisionDate: 17-Jul-2002; LatestRevisionNote: Re-released for DXP Platform.; Publisher: Altium Limited
signal-integrity model Connector
footprint A1257WR-S-2P
pins: 1 CAN_H, 2 CAN_L

## 卧式gh1.25 2pin
designator P?
LatestRevisionDate: 17-Jul-2002; LatestRevisionNote: Re-released for DXP Platform.; Publisher: Altium Limited
signal-integrity model Connector
footprint A1257WR-S-2P
pins: 1, 2

## 卧式gh1.25 3pin
designator CN?
footprint CONN-TH_3P-P1.25_GH1.25
pins: 1, 2, 3

## 卧式gh1.25 4pin
designator CN?
footprint CONN-SMD_4P-P1.25_GH1.25-4P
pins: 1, 2, 3, 4

## 卧式GH1.25 6PIN
designator H?
footprint CONN-SMD_6P-P1.25_XYECONN_XY-GH1.25-6A61
pins: 1, 2, 3, 4, 5, 6

## 卧式MX1.25 4pin
designator P?
LatestRevisionDate: 17-Jul-2002; LatestRevisionNote: Re-released for DXP Platform.; Publisher: Altium Limited
signal-integrity model Connector
footprint MX 1.25-WS-4P (长：10.15mm，宽：4.2mm，高：3.4mm)
pins: 1, 2, 3, 4

## 卧式STLINK
designator CN?
footprint CONN-SMD_4P-P1.25_GH1.25-4P
pins: 1 VCC, 2 GND, 3 CLK, 4 DIO

## 卧式UART
designator CN?
footprint CONN-SMD_4P-P1.25_GH1.25-4P
pins: 1 5V, 2 GND, 3 TX, 4 RX

## 卧式XH1.5 6PIN
designator H?
footprint CONN-SMD_6P-P1.50_ZX-ZH1.5-6PWT
pins: 1, 2, 3, 4, 5, 6

## 卧式XT30公头
designator CN?
footprint CONN-TH_XT30PW-F
pins: 1 +, 2 -

## 卧式XT30公母头
designator CN?
footprint CONN-TH_XT30PW-M
pins: 1 -, 2 +

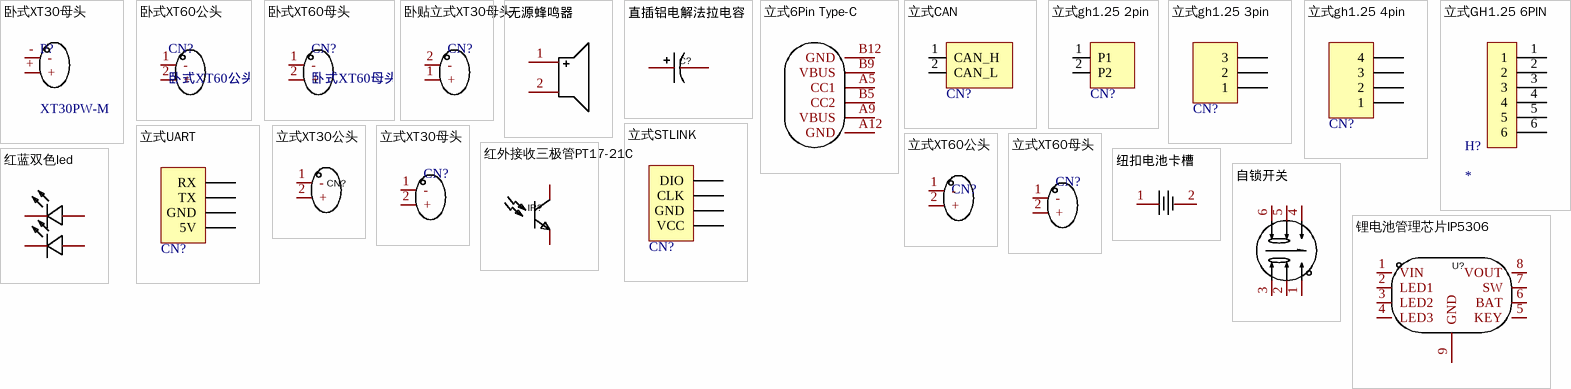
[diagram p19: symbols 卧式XT30母头 to 锂电池管理芯片IP5306]

## 卧式XT30母头
designator P?, comment XT30PW-M
卧式XT30母头; LatestRevisionDate: 17-Jul-2002; LatestRevisionNote: Re-released for DXP Platform.; Publisher: Altium Limited
footprint XT30PW-M
pins: +, -

## 卧式XT60公头
designator CN?
footprint CONN-TH_XT60PW-F
pins: 1 -, 2 +

## 卧式XT60母头
designator CN?
footprint CONN-TH_XT60PW-M
pins: 1 -, 2 +

## 卧贴立式XT30母头
designator CN?  (value not drawn)
footprint CONN-TH_XT30U-M _Sleep
pins: 1 +, 2 -

## 无源蜂鸣器
designator BUZZER?, comment QMB-09B-03  (value not drawn)
Manufacturer: 华能; Value: 2.7kHz; Add into BOM: yes; Oscillator Circuit: 无源(外部驱动); Technology Type: 电磁式; Operating Voltage: 2V~5V; Sound Pressure Level (SPL): 85dB@3V,10cm; Symbol: QMB-09B-03; Device: QMB-09B-03; Supplier: LCSC; Manufacturer Part: QMB-09B-03; Supplier Part: C96256; JLCPCB Part Class: Extended Part; LCSC Part Name: 无源蜂鸣器QMB-09B-03; Supplier Footprint: 插件,D=9mm; Datasheet: https://atta.szlcsc.com/upload/public/pdf/source/20210401/C96256_958B17753B5AD7CBFBCFFC7C095B4484.pdf; Convert to PCB: yes; Diameter (φD): 9mm; Height: 5.7mm
footprint BUZ-TH_BD9.0-P4.00-D0.6-FD
pins: 1, 2

## 直插铝电解法拉电容
designator C?, comment 40F  (value not drawn)
直插铝电解法拉电容; Manufacturer: rubycon(红宝石); Name: 100uF; Symbol: 100YXJ100M10X20; Add into BOM: yes; Value: 100uF; Tolerance: ±20%; Rated Voltage: 100V; Ripple Current: 1.04A@100kHz; Equivalent Series Resistance(ESR): 120mΩ@100kHz; φD: 10mm; L: 20mm; Lifetime @ Temp: 10000hrs@105℃; Device: 100YXJ100M10X20; LCSC Part Name: 100uF ±20% 100V; Supplier Part: C440827; Manufacturer Part: 100YXJ100M10X20; Supplier Footprint: 插件,D10xL20mm; JLCPCB Part Class: Extended Part; Datasheet: https://atta.szlcsc.com/upload/public/pdf/source/20230810/A68D5411C6D60D4A104C9B6E8FF59617.pdf; Supplier: LCSC; Convert to PCB: yes; Lead Spacing: 5mm
footprint CAP-TH_BD10.0-P5.00-D1.0-FD
3D model CAP-TH_D10.0-H16.0-P5.00
pins: 1, 2

## 立式6Pin Type-C
designator Type-c, comment TYPE-603-T3  (value not drawn)
卧式/立式; Manufacturer: Yuandi(元迪); Add into BOM: yes; Connector Type: Type-C; Gender: 母; Number of Ports: 1; Number of Contacts: 6P; Current Rating - Power (Max): 3A; Symbol: TYPE-603-T3; Device: TYPE-603-T3; Supplier: LCSC; Supplier Part: C2689837; Manufacturer Part: TYPE-603-T3; JLCPCB Part Class: Extended Part; LCSC Part Name: Type-C 母 卧贴; Supplier Footprint: SMD; Datasheet: https://atta.szlcsc.com/upload/public/pdf/source/20210201/C2689837_ADDC7208C4BC94174971B81184F05AAE.pdf; Convert to PCB: yes; Standard: -; Mounting Style: 卧贴; Operating Temperature Range: -25℃~+85℃
footprint USB-C-SMD_TYPEC-253-BCP6
pins: A5 CC1, A9 VBUS, A12 GND, B5 CC2, B9 VBUS, B12 GND

## 立式CAN
designator CN?, comment 立式gh1.25 2pin  (value not drawn)
footprint CONN-SMD_GH1.25-2PWBPZ
pins: 1 CAN_H, 2 CAN_L

## 立式gh1.25 2pin
designator CN?  (value not drawn)
footprint CONN-SMD_GH1.25-2PWBPZ
pins: 1 P1, 2 P2

## 立式gh1.25 3pin
designator CN?  (value not drawn)
LatestRevisionDate: 17-Jul-2002; LatestRevisionNote: Re-released for DXP Platform.; Publisher: Altium Limited
footprint CONN-SMD_3P-P1.25_XUNPU_WAFER-GH1.25-3PLB
pins: 1, 2, 3

## 立式gh1.25 4pin
designator CN?  (value not drawn)
LatestRevisionDate: 17-Jul-2002; LatestRevisionNote: Re-released for DXP Platform.; Publisher: Altium Limited
footprint GH1.25 4P 立贴
pins: 1, 2, 3, 4

## 立式GH1.25 6PIN
designator H?
立式GH1.25 6PIN
footprint CONN-SMD_6P-P1.25_XUNPU_WAFER-GH1.25-6PLB
pins: 1, 2, 3, 4, 5, 6

## 立式STLINK
designator CN?  (value not drawn)
LatestRevisionDate: 17-Jul-2002; LatestRevisionNote: Re-released for DXP Platform.; Publisher: Altium Limited
footprint GH1.25 4P 立贴
pins: 1 VCC, 2 GND, 3 CLK, 4 DIO

## 立式UART
designator CN?  (value not drawn)
LatestRevisionDate: 17-Jul-2002; LatestRevisionNote: Re-released for DXP Platform.; Publisher: Altium Limited
footprint GH1.25 4P 立贴
pins: 1 5V, 2 GND, 3 TX, 4 RX

## 立式XT30公头
designator CN?, comment XT30立式  (value not drawn)
立式XT30公头; Manufacturer: AMASS(艾迈斯); Symbol: XT60; Add into BOM: yes; Brand: 艾迈斯; InterfaceType: 公头; specifications: 3.5mm; Device: XT60; LCSC Part Name: AMASS(艾迈斯) XT60模型插头 3.5mm镀金香蕉头公头（电调端）XT60-M; Supplier Part: C98733; Manufacturer Part: XT60; Supplier Footprint: -; JLCPCB Part Class: Extended Part; Datasheet: https://atta.szlcsc.com/upload/public/pdf/source/20170606/1496716524919.pdf; Supplier: LCSC; Convert to PCB: yes; Model: XT60; Power: -; Output: -; Input: -; Size: -; Interface: -; Type: 香蕉头; Colour: 黄色; MaximumCurrent: -; RatedVoltage: -; Type1: -; NumberOfUSBHoles: -; MetalMaterial: -; InsulationMaterial: -; RatedCurrent: -; RecommendedWireGauge: -; FlameRetardantGrade: -; contact resistance: -; Belt length: -
footprint CONN-TH_XT30U-F
pins: 1 -, 2 +

## 立式XT30母头
designator CN?  (value not drawn)
footprint CONN-TH_XT30U-M
pins: 1 -, 2 +

## 立式XT60公头
designator CN?, comment XT60 立式  (value not drawn)
立式XT60公头
footprint CONN-TH_XT60U-F
pins: 1 -, 2 +

## 立式XT60母头
designator CN?  (value not drawn)
footprint CONN-TH_XT60U-M
pins: 1 -, 2 +

## 红外接收三极管PT17-21C
designator IR?, comment PT17-21C/L41/TR8  (value not drawn)
Manufacturer: EVERLIGHT(亿光); Add into BOM: yes; Transistor Type: NPN; Collector Emitter Voltage: 30V; Collector Current (Ic): 20mA; Dissipation Power(Max): 75mW; Collector Dark Current: 100nA; Peak Wavelength: 940nm; Name: PT17-21C/L41/TR8; Symbol: PT17-21C/L41/TR8; Device: PT17-21C/L41/TR8; LCSC Part Name: 940nm的NPN光电三极管; Supplier Part: C100090; Manufacturer Part: PT17-21C/L41/TR8; Supplier Footprint: 0805; JLCPCB Part Class: Extended Part; Datasheet: https://atta.szlcsc.com/upload/public/pdf/source/20170412/1491985218480.pdf; Supplier: LCSC; Convert to PCB: yes; Viewing Angle: -; Operating Temperature: -25℃~+85℃
footprint OPTO-SMD_L2.0-W1.3-R-FD
3D model OPTO-SMD_L2.0-W1.3-R-FD
pins: 1 E, 2 C

## 红蓝双色led
designator U?  (value not drawn)
Manufacturer: MEIHUA(美华); Symbol: MHT150RBCT; Add into BOM: yes; Emitted Color: 红色,蓝色; Forward Voltage (VF): 2.7V~3.4V；1.8V~2.5V; Forward Current: 20mA; Dominant Wavelength: 460nm~475nm；621nm; Peak Wavelength: 632nm；462nm; Luminous Intensity: 90mcd~360mcd; Viewing Angle: 130°; Device: MHT150RBCT; LCSC Part Name: 1206正贴红蓝双色; Supplier Part: C3028841; Manufacturer Part: MHT150RBCT; Supplier Footprint: 1206; JLCPCB Part Class: Extended Part; Datasheet: https://atta.szlcsc.com/upload/public/pdf/source/20220606/9803CFB43244D163E45154DFF344EA48.pdf; Supplier: LCSC; Convert to PCB: yes; Lens Color: -; Operating Temperature: -40℃~+85℃
footprint LED-SMD_4P-L3.2-W1.6-RD_MHT150RBCT
pins: 1 -, 2 -, 3 +, 4 +

## 纽扣电池卡槽
designator B?, comment CR1220-2  (value not drawn)
Manufacturer: Q&J; Add into BOM: yes; Connector Type: 电池底座; Battery Type: CR1220; Name: CR1220-2; Symbol: CR1220-2; Device: CR1220-2; LCSC Part Name: 电池底座 适用电池:CR1220; Supplier Part: C70381; Manufacturer Part: CR1220-2; Supplier Footprint: SMD; JLCPCB Part Class: Extended Part; Datasheet: https://atta.szlcsc.com/upload/public/pdf/source/20160427/1461725216696.pdf; Supplier: LCSC; Convert to PCB: yes; Operating Temperature Range: -
footprint BAT-SMD_CR1220-2
3D model BAT-SMD_CR1220-2
pins: 1, 2

## 自锁开关
designator SW1, comment 5.8 ZSGT  (value not drawn)
双刀双掷5.8; Manufacturer: SHOU HAN(首韩); Add into BOM: yes; Circuit: 双刀双掷; Self Lock / No Lock: 自锁; Actuator Style: 方形按钮; Contact Current: 110mA; Voltage Rating (DC): 30V; Insulation Resistance: 100MΩ; Actuator/Cap Color: 白色; With Lamp: 不带; Pin Style: PC引脚; Operating Force: 150gf; Mechanical Life: 10万次; Name: 5.8 ZSGT; Symbol: 5.8 ZSGT; Device: 5.8 ZSGT; LCSC Part Name: 5.8*5.8有头/高头 带锁/自锁开关 泡泡机开关; Supplier Part: C2681587; Manufacturer Part: 5.8 ZSGT; Supplier Footprint: 插件; JLCPCB Part Class: Extended Part; Datasheet: https://atta.szlcsc.com/upload/public/pdf/source/20210107/C2681587_CDDDDA4A1C7AC9FEB01815B75893A6BA.pdf; Supplier: LCSC; Convert to PCB: yes; Mounting Style: 直插; Operating Temperature: -10℃~+70℃
footprint SW-TH_5.8ZSGT
3D model SW-TH_5.8ZSGT
pins: 1, 2, 3, 4, 5, 6

## 锂电池管理芯片IP5306
designator U?, comment IP5306  (value not drawn)
Manufacturer: INJOINIC(英集芯); Add into BOM: yes; Symbol: IP5306; Device: IP5306; LCSC Part Name: IP5306; Supplier Part: C181692; Manufacturer Part: IP5306; Supplier Footprint: ESOP-8; JLCPCB Part Class: Extended Part; Datasheet: https://atta.szlcsc.com/upload/public/pdf/source/20190627/C384572_9925B3DDC4041BC6108E5AB46A2A0AB1.pdf; Supplier: LCSC; Convert to PCB: yes
footprint ESOP-8_L4.9-W3.9-P1.27-LS6.0-BL-EP
pins: 1 VIN, 2 LED1, 3 LED2, 4 LED3, 5 KEY, 6 BAT, 7 SW, 8 VOUT, 9 GND